# Altium footprint library RelayLibrary.PcbLib: 12 footprints
Each footprint in its own frame and in the unit in brackets; x right, y up, seen from the top. Pads: shape width x height; smd on the part's side, far side on the other; paste and mask are expansions set on the pad; w line width, h text height; cw(c..) or ccw(c..) is an arc to the next point about the centre after c.
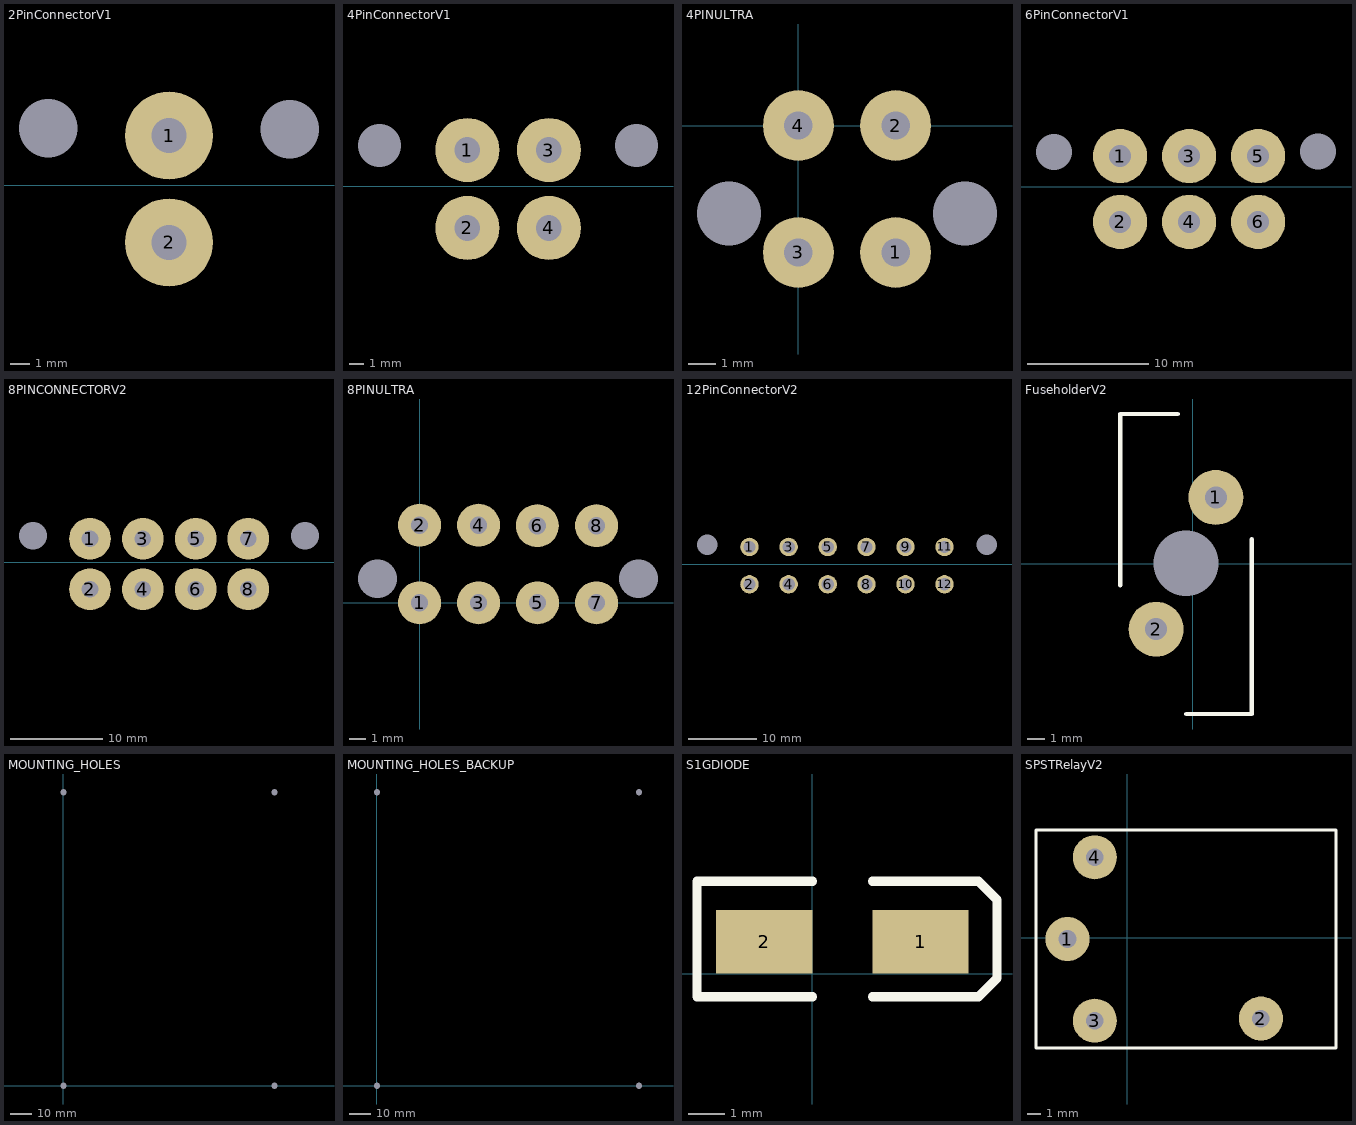
[diagram p0: the footprints below, top view; thin cyan lines are the x and y axes]

## 2PinConnectorV1 [mm]
pads (4):
  round 4.5 hole 1.8: 1(14.986,2.54) 2(14.986,-2.921)
  round 0 hole 3: ""(8.816,2.921) ""(21.156,2.865)
3D body: height 15.15, standoff -3.43, extent 7.239,-6.382 22.63,7.652

## 4PinConnectorV1 [mm]
pads (6):
  round 4.5 hole 1.8: 1(14.986,2.54) 2(14.986,-2.921) 3(20.701,2.54) 4(20.701,-2.921)
  round 0 hole 3: ""(8.816,2.865) ""(26.856,2.865)

## 4PINULTRA [mm]
pads (6):
  round 2.55 hole 1.02: 1(3.5,-4.572) 2(3.5,0) 3(0,-4.572) 4(0,0)
  round 0 hole 2.3: ""(-2.5,-3.175) ""(6,-3.175)
3D body: height 14.1, standoff -3.1, extent -3.488,-8.225 7.112,5.685

## 6PinConnectorV1 [mm]
pads (8):
  round 4.5 hole 1.8: 1(14.986,2.54) 2(14.986,-2.921) 3(20.701,2.54) 4(20.701,-2.921) 5(26.416,2.54) 6(26.416,-2.921)
  round 0 hole 3: ""(9.525,2.865) ""(31.369,2.921)
3D body: height 15.13, standoff -3.45, extent 8.29,-6.477 33.082,7.557

## 8PINCONNECTORV2 [mm]
pads (10):
  round 4.5 hole 1.8: 1(14.986,2.54) 2(14.986,-2.921) 3(20.701,2.54) 4(20.701,-2.921) 5(26.416,2.54) 6(26.416,-2.921) 7(32.086,2.54) 8(32.086,-2.921)
  round 0 hole 3: ""(8.816,2.865) ""(38.227,2.865)

## 8PINULTRA [mm]
pads (10):
  round 2.55 hole 1.02: 1(0,0) 2(0,4.6) 3(3.5,0) 4(3.5,4.6) 5(7,0) 6(6.985,4.572) 7(10.5,0) 8(10.5,4.572)
  round 0 hole 2.3: ""(-2.5,1.42) ""(12.994,1.42)
3D body: height 13.1, standoff -4.1, extent -3.593,-3.683 14.007,10.227

## 12PinConnectorV2 [mm]
pads (14):
  round 2.7 hole 1.8: 1(14.986,2.54) 2(14.986,-2.921) 3(20.701,2.54) 4(20.701,-2.921) 5(26.416,2.54) 6(26.416,-2.921) 7(32.086,2.54) 8(32.086,-2.921) 9(37.786,2.54) 10(37.786,-2.921) 11(43.486,2.54) 12(43.486,-2.921)
  round 0 hole 3: ""(8.816,2.865) ""(49.657,2.865)

## FuseholderV2 [mil]
pads (3):
  round 125 hole 50: 1(53,151) 2(-83,-149)
  round 0 hole 149.02: ""(-15,1)
Top Overlay:
  lines w10: -165,-49 -165,341 -34,341 ; -14,-342 135,-342 135,56
3D body: height 151.97, standoff 0, extent -77.64,-58.94 40,58.94
3D body: height 151.97, standoff 0, extent -102.53,-168.64 -63.31,-129.35
3D body: height 151.97, standoff 0, extent 33.48,131.36 72.69,170.65
3D body: height 501.97, standoff 0, extent -180,-340 140,340

## MOUNTING_HOLES [mm]
pads (4):
  round 0 hole 3: ""(0,0) ""(0,140) ""(100.65,0) ""(100.65,140)

## MOUNTING_HOLES_BACKUP [mm]
pads (4):
  round 0 hole 3: ""(0,0) ""(0,140) ""(124.9,0) ""(124.9,140)

## S1GDIODE [mm] "Flyback diode"
pads (2):
  rect 2.65x1.75 smd: 1(2.975,0.875) 2(-1.325,0.875)
Top Overlay:
  lines w0.254: 0,-0.635 -3.175,-0.635 -3.175,2.54 0,2.54 ; 1.651,-0.635 4.572,-0.635 5.08,-0.127 5.08,2.032 4.572,2.54 1.651,2.54
3D body: height 2.41, standoff 0, extent -1.905,-0.571 3.375,2.349

## SPSTRelayV2 [mil]
pads (4):
  round 127.46 hole 51: 1(-173,-3) 2(386,-232.99) 3(-94,-239) 4(-94,233)
Top Overlay:
  lines w10: -264,-318 -264,312 603,312 603,-318 -263,-318
3D body: height 629.92, standoff -153.54, extent -283.07,-309.95 583.08,319.97